# Altium integrated library AVR.IntLib: 12 symbols
Pins are listed as number, name and electrical type; pins without a type are passive.

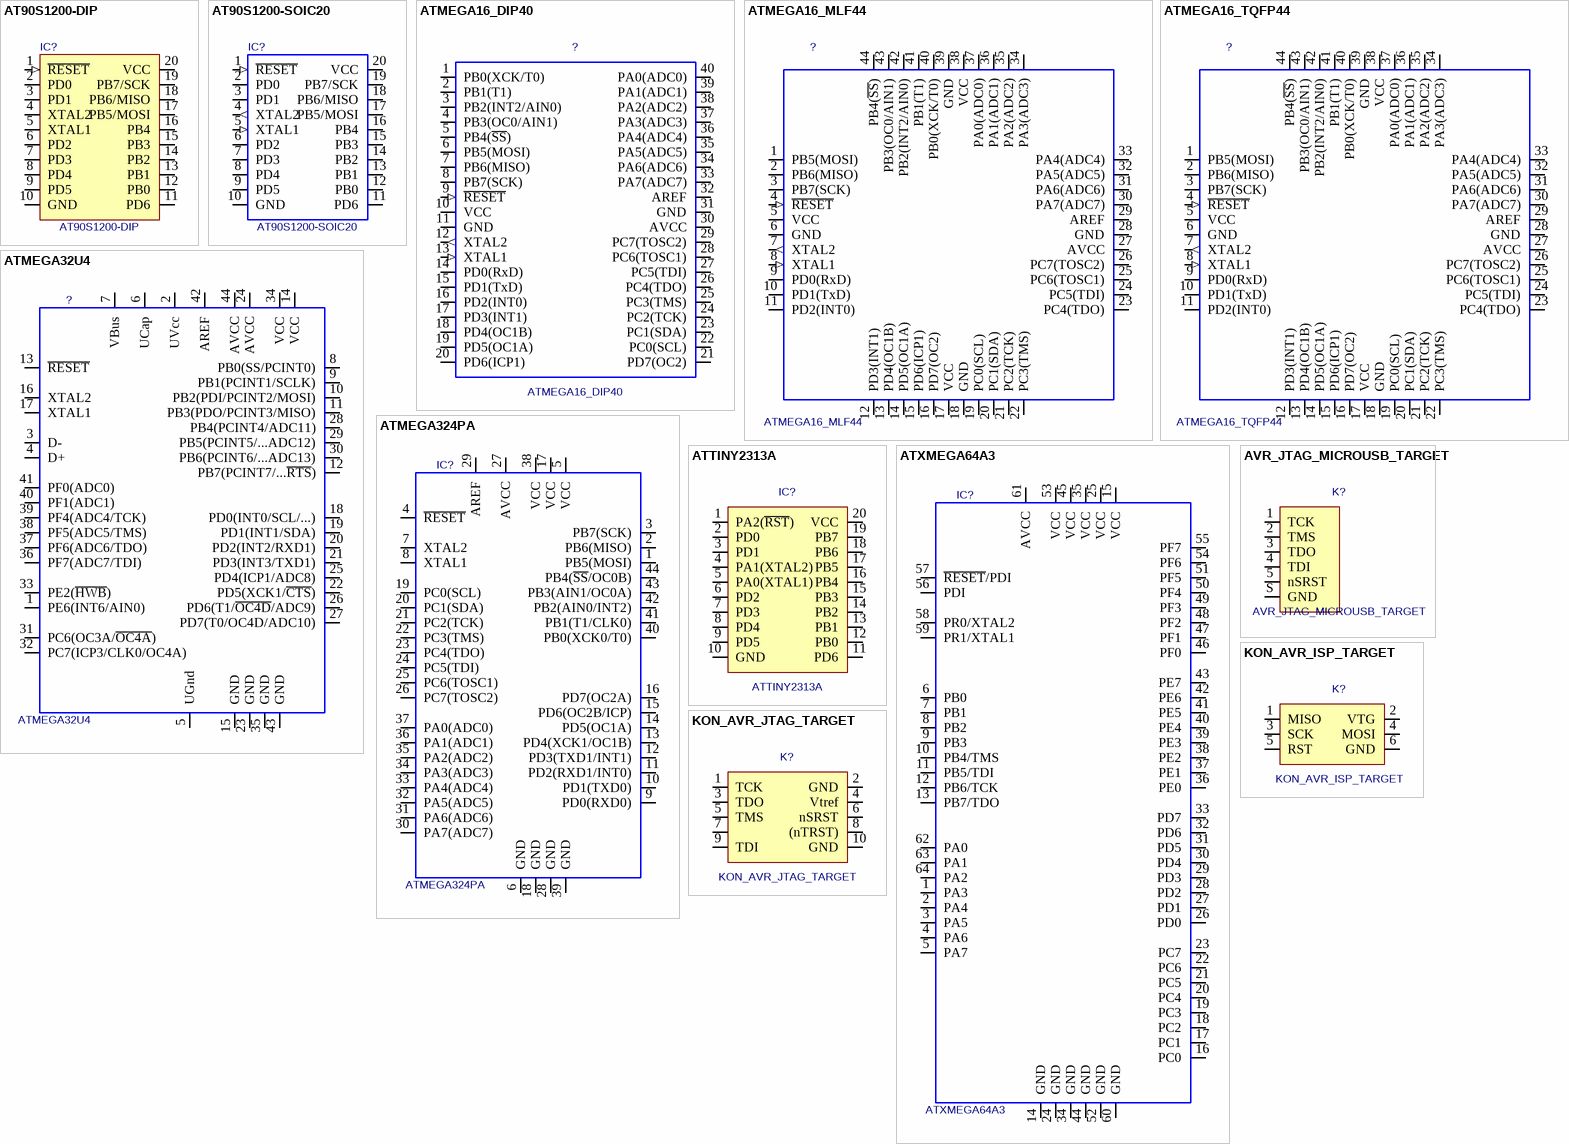
[diagram p0: symbols AT90S1200-DIP to KON_AVR_JTAG_TARGET]

## AT90S1200-DIP
designator IC?
Value: *
footprint DIP20
pins: 1 ~{RESET} (in), 2 PD0 (io), 3 PD1 (io), 4 XTAL2, 5 XTAL1, 6 PD2 (io), 7 PD3 (io), 8 PD4 (io), 9 PD5 (io), 10 GND (power), 11 PD6 (io), 12 PB0 (io), 13 PB1 (io), 14 PB2 (io), 15 PB3 (io), 16 PB4 (io), 17 PB5/MOSI (io), 18 PB6/MISO (io), 19 PB7/SCK (io), 20 VCC (power)

## AT90S1200-SOIC20
designator IC?
Value: *
footprint SOIC20
pins: 1 ~{RESET} (in), 2 PD0 (io), 3 PD1 (io), 4 XTAL2 (out), 5 XTAL1 (in), 6 PD2 (io), 7 PD3 (io), 8 PD4 (io), 9 PD5 (io), 10 GND (power), 11 PD6 (io), 12 PB0 (io), 13 PB1 (io), 14 PB2 (io), 15 PB3 (io), 16 PB4 (io), 17 PB5/MOSI (io), 18 PB6/MISO (io), 19 PB7/SCK (io), 20 VCC (power)

## ATMEGA16_DIP40
designator ?
Value: *
footprint DIP40
pins: 1 PB0(XCK/T0) (io), 2 PB1(T1) (io), 3 PB2(INT2/AIN0) (io), 4 PB3(OC0/AIN1) (io), 5 PB4(~{SS}) (io), 6 PB5(MOSI) (io), 7 PB6(MISO) (io), 8 PB7(SCK) (io), 9 ~{RESET} (in), 10 VCC (power), 11 GND (power), 12 XTAL2 (out), 13 XTAL1 (in), 14 PD0(RxD) (io), 15 PD1(TxD) (io), 16 PD2(INT0) (io), 17 PD3(INT1) (io), 18 PD4(OC1B) (io), 19 PD5(OC1A) (io), 20 PD6(ICP1) (io), 21 PD7(OC2) (io), 22 PC0(SCL) (io), 23 PC1(SDA) (io), 24 PC2(TCK) (io), 25 PC3(TMS) (io), 26 PC4(TDO) (io), 27 PC5(TDI) (io), 28 PC6(TOSC1) (io), 29 PC7(TOSC2) (io), 30 AVCC (power), 31 GND (power), 32 AREF, 33 PA7(ADC7) (io), 34 PA6(ADC6) (io), 35 PA5(ADC5) (io), 36 PA4(ADC4) (io), 37 PA3(ADC3) (io), 38 PA2(ADC2) (io), 39 PA1(ADC1) (io), 40 PA0(ADC0) (io)

## ATMEGA16_MLF44
designator ?
Value: *
footprint MLF44
pins: 1 PB5(MOSI) (io), 2 PB6(MISO) (io), 3 PB7(SCK) (io), 4 ~{RESET} (in), 5 VCC (power), 6 GND (power), 7 XTAL2 (out), 8 XTAL1 (in), 9 PD0(RxD) (io), 10 PD1(TxD) (io), 11 PD2(INT0) (io), 12 PD3(INT1) (io), 13 PD4(OC1B) (io), 14 PD5(OC1A) (io), 15 PD6(ICP1) (io), 16 PD7(OC2) (io), 17 VCC (power), 18 GND (power), 19 PC0(SCL) (io), 20 PC1(SDA) (io), 21 PC2(TCK) (io), 22 PC3(TMS) (io), 23 PC4(TDO) (io), 24 PC5(TDI) (io), 25 PC6(TOSC1) (io), 26 PC7(TOSC2) (io), 27 AVCC (power), 28 GND (power), 29 AREF, 30 PA7(ADC7) (io), 31 PA6(ADC6) (io), 32 PA5(ADC5) (io), 33 PA4(ADC4) (io), 34 PA3(ADC3) (io), 35 PA2(ADC2) (io), 36 PA1(ADC1) (io), 37 PA0(ADC0) (io), 38 VCC (power), 39 GND (power), 40 PB0(XCK/T0) (io), 41 PB1(T1) (io), 42 PB2(INT2/AIN0) (io), 43 PB3(OC0/AIN1) (io), 44 PB4(~{SS}) (io)

## ATMEGA16_TQFP44
designator ?
Value: *
footprint TQFP44
pins: 1 PB5(MOSI) (io), 2 PB6(MISO) (io), 3 PB7(SCK) (io), 4 ~{RESET} (in), 5 VCC (power), 6 GND (power), 7 XTAL2 (out), 8 XTAL1 (in), 9 PD0(RxD) (io), 10 PD1(TxD) (io), 11 PD2(INT0) (io), 12 PD3(INT1) (io), 13 PD4(OC1B) (io), 14 PD5(OC1A) (io), 15 PD6(ICP1) (io), 16 PD7(OC2) (io), 17 VCC (power), 18 GND (power), 19 PC0(SCL) (io), 20 PC1(SDA) (io), 21 PC2(TCK) (io), 22 PC3(TMS) (io), 23 PC4(TDO) (io), 24 PC5(TDI) (io), 25 PC6(TOSC1) (io), 26 PC7(TOSC2) (io), 27 AVCC (power), 28 GND (power), 29 AREF, 30 PA7(ADC7) (io), 31 PA6(ADC6) (io), 32 PA5(ADC5) (io), 33 PA4(ADC4) (io), 34 PA3(ADC3) (io), 35 PA2(ADC2) (io), 36 PA1(ADC1) (io), 37 PA0(ADC0) (io), 38 VCC (power), 39 GND (power), 40 PB0(XCK/T0) (io), 41 PB1(T1) (io), 42 PB2(INT2/AIN0) (io), 43 PB3(OC0/AIN1) (io), 44 PB4(~{SS}) (io)

## ATMEGA32U4
designator ?
Value: *
footprint TQFP44
pins: 1 PE6(INT6/AIN0), 2 UVcc, 3 D-, 4 D+, 5 UGnd, 6 UCap, 7 VBus, 8 PB0(SS/PCINT0), 9 PB1(PCINT1/SCLK), 10 PB2(PDI/PCINT2/MOSI), 11 PB3(PDO/PCINT3/MISO), 12 PB7(PCINT7/...~{RTS}), 13 ~{RESET}, 14 VCC, 15 GND, 16 XTAL2, 17 XTAL1, 18 PD0(INT0/SCL/...), 19 PD1(INT1/SDA), 20 PD2(INT2/RXD1), 21 PD3(INT3/TXD1), 22 PD5(XCK1/~{CTS}), 23 GND, 24 AVCC, 25 PD4(ICP1/ADC8), 26 PD6(T1/~{OC4D}/ADC9), 27 PD7(T0/OC4D/ADC10), 28 PB4(PCINT4/ADC11), 29 PB5(PCINT5/...ADC12), 30 PB6(PCINT6/...ADC13), 31 PC6(OC3A/~{OC4A}), 32 PC7(ICP3/CLK0/OC4A), 33 PE2(~{HWB}), 34 VCC, 35 GND, 36 PF7(ADC7/TDI), 37 PF6(ADC6/TDO), 38 PF5(ADC5/TMS), 39 PF4(ADC4/TCK), 40 PF1(ADC1), 41 PF0(ADC0), 42 AREF, 43 GND, 44 AVCC

## ATMEGA324PA
designator IC?
Value: *
footprint TQFP44
pins: 1 PB5(MOSI), 2 PB6(MISO), 3 PB7(SCK), 4 ~{RESET}, 5 VCC, 6 GND, 7 XTAL2, 8 XTAL1, 9 PD0(RXD0), 10 PD1(TXD0), 11 PD2(RXD1/INT0), 12 PD3(TXD1/INT1), 13 PD4(XCK1/OC1B), 14 PD5(OC1A), 15 PD6(OC2B/ICP), 16 PD7(OC2A), 17 VCC, 18 GND, 19 PC0(SCL), 20 PC1(SDA), 21 PC2(TCK), 22 PC3(TMS), 23 PC4(TDO), 24 PC5(TDI), 25 PC6(TOSC1), 26 PC7(TOSC2), 27 AVCC, 28 GND, 29 AREF, 30 PA7(ADC7), 31 PA6(ADC6), 32 PA5(ADC5), 33 PA4(ADC4), 34 PA3(ADC3), 35 PA2(ADC2), 36 PA1(ADC1), 37 PA0(ADC0), 38 VCC, 39 GND, 40 PB0(XCK0/T0), 41 PB1(T1/CLK0), 42 PB2(AIN0/INT2), 43 PB3(AIN1/OC0A), 44 PB4(~{SS}/OC0B)

## ATTINY2313A
designator IC?
Value: *
footprint SOIC20
pins: 1 PA2(~{RST}), 2 PD0, 3 PD1, 4 PA1(XTAL2), 5 PA0(XTAL1), 6 PD2, 7 PD3, 8 PD4, 9 PD5, 10 GND (power), 11 PD6, 12 PB0, 13 PB1, 14 PB2, 15 PB3, 16 PB4, 17 PB5, 18 PB6, 19 PB7, 20 VCC (power)

## ATXMEGA64A3
designator IC?
Value: *
footprint TQFP64_08MM
pins: 1 PA3, 2 PA4, 3 PA5, 4 PA6, 5 PA7, 6 PB0, 7 PB1, 8 PB2, 9 PB3, 10 PB4/TMS, 11 PB5/TDI, 12 PB6/TCK, 13 PB7/TDO, 14 GND, 15 VCC, 16 PC0, 17 PC1, 18 PC2, 19 PC3, 20 PC4, 21 PC5, 22 PC6, 23 PC7, 24 GND, 25 VCC, 26 PD0, 27 PD1, 28 PD2, 29 PD3, 30 PD4, 31 PD5, 32 PD6, 33 PD7, 34 GND, 35 VCC, 36 PE0, 37 PE1, 38 PE2, 39 PE3, 40 PE4, 41 PE5, 42 PE6, 43 PE7, 44 GND, 45 VCC, 46 PF0, 47 PF1, 48 PF2, 49 PF3, 50 PF4, 51 PF5, 52 GND, 53 VCC, 54 PF6, 55 PF7, 56 PDI, 57 ~{RESET}/PDI, 58 PR0/XTAL2, 59 PR1/XTAL1, 60 GND, 61 AVCC, 62 PA0, 63 PA1, 64 PA2

## AVR_JTAG_MICROUSB_TARGET
designator K?
Micro USB connector for JTAG debbuging on small targets (has no Vtref!!!); Value: *
footprint USB micro MOLEX 47346-0001 (Micro USB socket); pin to pad 1>4 2>3 3>2 4>1
pins: 1 TCK, 2 TMS, 3 TDO, 4 TDI, 5 nSRST, S GND

## KON_AVR_ISP_TARGET
designator K?
Value: *
footprint H2X3_SPEEDY
footprint H2X3_90_SPEEDY
footprint USB micro MOLEX 47346-0001 (Micro USB socket); pin to pad 2>3 3>4 4>2 6>S
pins: 1 MISO, 2 VTG, 3 SCK, 4 MOSI, 5 RST, 6 GND

## KON_AVR_JTAG_TARGET
designator K?
Value: *
footprint H2x5_SPEEDY
footprint H2x5_90_SPEEDY
pins: 1 TCK, 2 GND, 3 TDO, 4 Vtref, 5 TMS, 6 nSRST, 7, 8 (nTRST), 9 TDI, 10 GND